# Altium footprint library A7682S_V2.PcbLib: 1 footprints
Each footprint in its own frame and in the unit in brackets; x right, y up, seen from the top. Pads: shape width x height; smd on the part's side, far side on the other; paste and mask are expansions set on the pad; w line width, h text height; cw(c..) or ccw(c..) is an arc to the next point about the centre after c.
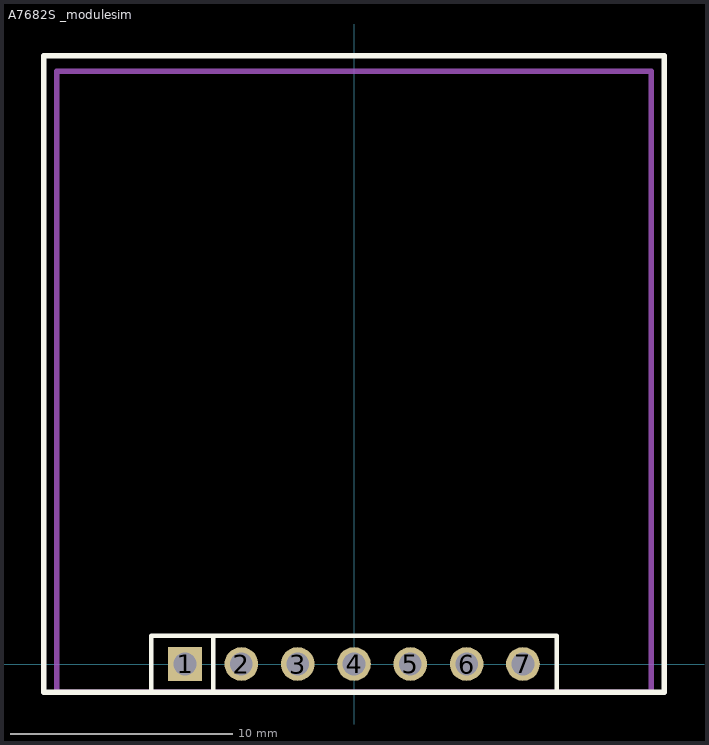
[diagram p0: the footprint, top view; thin cyan lines are the x and y axes]

## A7682S _modulesim [mm] "V2 4G LTE"
height 5.5
pads (7):
  rect 1.52x1.52 hole 1.02: 1(-7.62,0)
  round 1.52 hole 1.02: 2(-5.08,0) 3(-2.54,0) 4(0,0) 5(2.54,0) 6(5.08,0) 7(7.62,0)
Top Overlay:
  lines w0.2: -6.35,-1.27 -6.35,1.27 ; -9.14,-1.27 -9.14,1.27 9.14,1.27 9.14,-1.27 -9.14,-1.27
  lines w0.254: -14,-1.27 14,-1.27 14,27.432 -14,27.432 -14,-1.27
Mechanical 2:
  lines w0.254: -13.4,-1.27 13.4,-1.27 13.4,26.73 -13.4,26.73 -13.4,-1.27
3D body "61300711821.stp": height 8.51, standoff -3.09, extent -9.14,-1.25 9.14,1.25